# Altium schematic symbol library Electromechanical.SchLib: 1 symbol
Pins are listed as number, name and electrical type; pins without a type are passive.

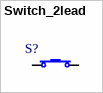
[diagram p0: symbol Switch_2lead]

## Switch_2lead
designator S?, comment FSMSMTR  (value not drawn)
2 lead switch - FSMSMTR; Supplier 1: Digi-Key; Supplier Part Number 1: 450-1758-1-ND
footprint FSMSMTR (SWITCH TACTILE SPST-NO 0.05A 24V)
pins: 1, 2